# Altium schematic symbol library TXB010x.SchLib: 2 symbols
Pins are listed as number, name and electrical type; pins without a type are passive.

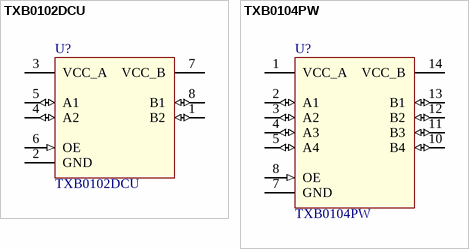
[diagram p0: symbols TXB0102DCU to TXB0104PW]

## TXB0102DCU
designator U?
TXB0102 2-Bit Bidirectional Voltage-level Translator With Automatic Direction Sensing  and ±15-kV ESD Protection
pins: 1 B2 (io), 2 GND (power), 3 VCC_A (power), 4 A2 (io), 5 A1 (io), 6 OE (in), 7 VCC_B (power), 8 B1 (io)

## TXB0104PW
designator U?
TXB0104 4-Bit Bidirectional Voltage-level Translator With Automatic Direction Sensing  and ±15-kV ESD Protection
pins: 1 VCC_A (power), 2 A1 (io), 3 A2 (io), 4 A3 (io), 5 A4 (io), 7 GND (power), 8 OE (in), 10 B4 (io), 11 B3 (io), 12 B2 (io), 13 B1 (io), 14 VCC_B (power)